# EAGLE library part LFXP10C_XXF256 (library lattice1)
lfxp10c_fpbga256 edit this description Auto generated by make-symbol-device-package-bsdl.ulp Rev. 20 Source: lfxp10c_fpbga256.bsm
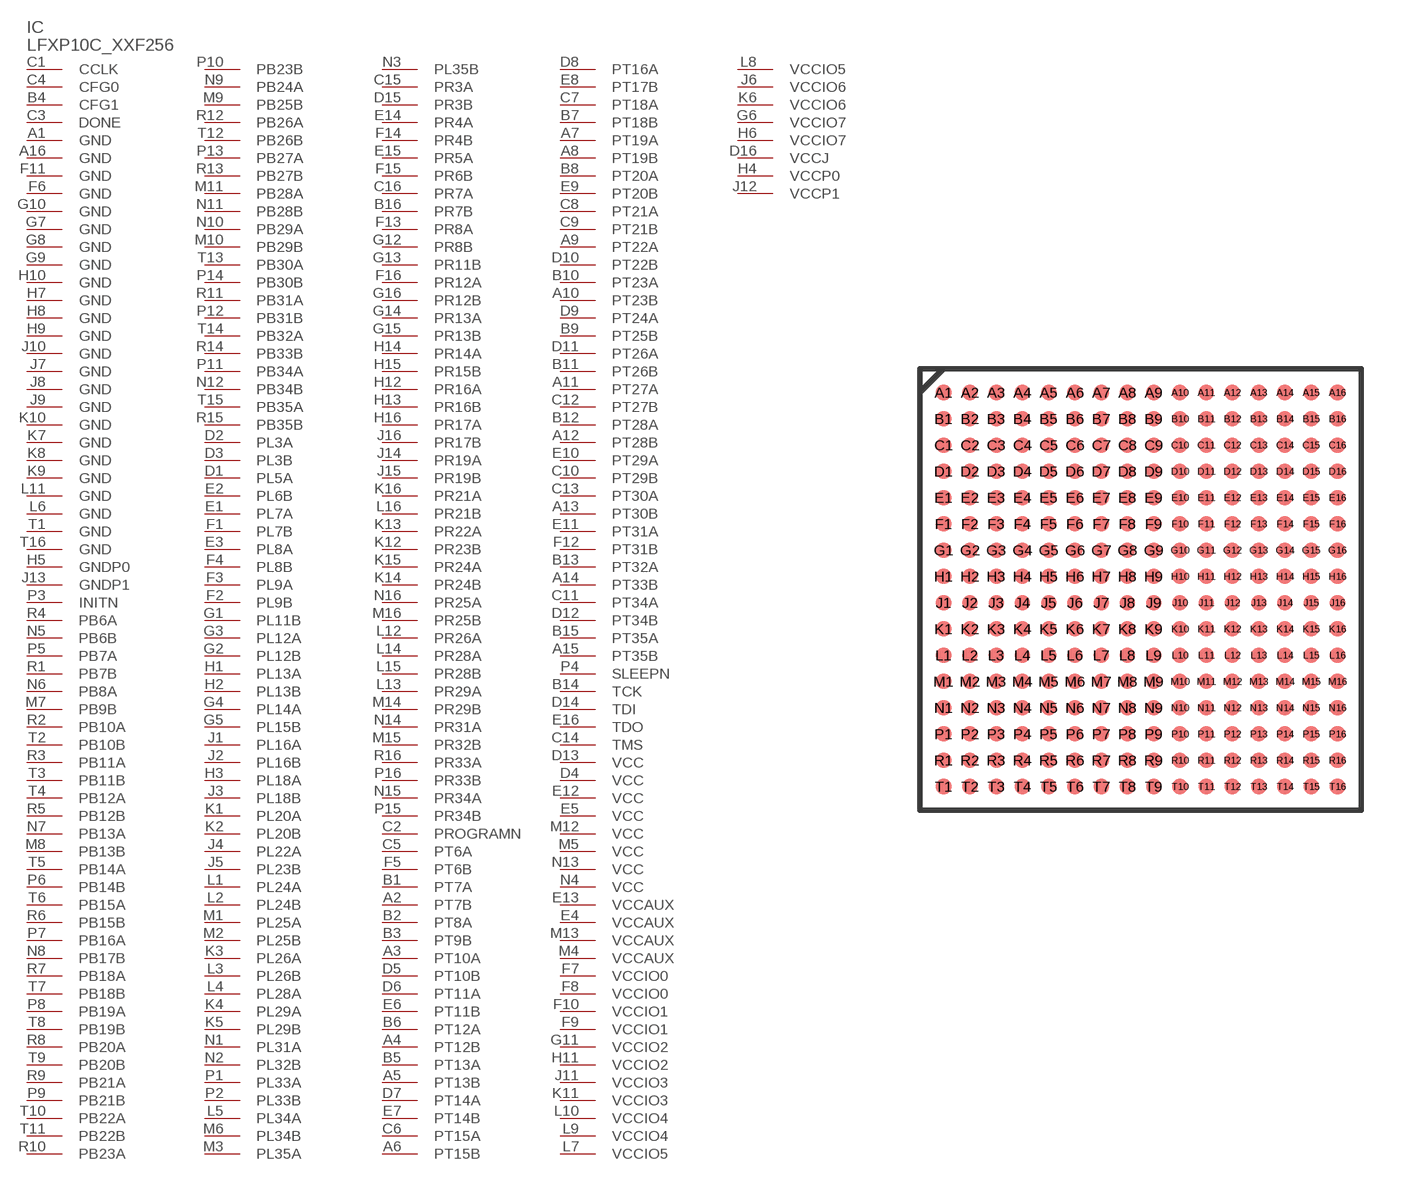
[diagram p15: symbol with the pads of FPBGA_256; footprint FPBGA_256]

Designator prefix IC

## LFXP10C_XXF256  [FPBGA_256]
A1  GND  pwr
A2  PT7B
A3  PT10A
A4  PT12B
A5  PT13B
A6  PT15B
A7  PT19A
A8  PT19B
A9  PT22A
A10  PT23B
A11  PT27A
A12  PT28B
A13  PT30B
A14  PT33B
A15  PT35B
A16  GND  pwr
B1  PT7A
B2  PT8A
B3  PT9B
B4  CFG1  in
B5  PT13A
B6  PT12A
B7  PT18B
B8  PT20A
B9  PT25B
B10  PT23A
B11  PT26B
B12  PT28A
B13  PT32A
B14  TCK  in
B15  PT35A
B16  PR7B
C1  CCLK
C2  PROGRAMN  in
C3  DONE
C4  CFG0  in
C5  PT6A
C6  PT15A
C7  PT18A
C8  PT21A
C9  PT21B
C10  PT29B
C11  PT34A
C12  PT27B
C13  PT30A
C14  TMS  in
C15  PR3A
C16  PR7A
D1  PL5A
D2  PL3A
D3  PL3B
D4  VCC  pwr
D5  PT10B
D6  PT11A
D7  PT14A
D8  PT16A
D9  PT24A
D10  PT22B
D11  PT26A
D12  PT34B
D13  VCC  pwr
D14  TDI  in
D15  PR3B
D16  VCCJ  pwr
E1  PL7A
E2  PL6B
E3  PL8A
E4  VCCAUX  pwr
E5  VCC  pwr
E6  PT11B
E7  PT14B
E8  PT17B
E9  PT20B
E10  PT29A
E11  PT31A
E12  VCC  pwr
E13  VCCAUX  pwr
E14  PR4A
E15  PR5A
E16  TDO  out
F1  PL7B
F2  PL9B
F3  PL9A
F4  PL8B
F5  PT6B
F6  GND  pwr
F7  VCCIO0  pwr
F8  VCCIO0  pwr
F9  VCCIO1  pwr
F10  VCCIO1  pwr
F11  GND  pwr
F12  PT31B
F13  PR8A
F14  PR4B
F15  PR6B
F16  PR12A
G1  PL11B
G2  PL12B
G3  PL12A
G4  PL14A
G5  PL15B
G6  VCCIO7  pwr
G7  GND  pwr
G8  GND  pwr
G9  GND  pwr
G10  GND  pwr
G11  VCCIO2  pwr
G12  PR8B
G13  PR11B
G14  PR13A
G15  PR13B
G16  PR12B
H1  PL13A
H2  PL13B
H3  PL18A
H4  VCCP0  pwr
H5  GNDP0  pwr
H6  VCCIO7  pwr
H7  GND  pwr
H8  GND  pwr
H9  GND  pwr
H10  GND  pwr
H11  VCCIO2  pwr
H12  PR16A
H13  PR16B
H14  PR14A
H15  PR15B
H16  PR17A
J1  PL16A
J2  PL16B
J3  PL18B
J4  PL22A
J5  PL23B
J6  VCCIO6  pwr
J7  GND  pwr
J8  GND  pwr
J9  GND  pwr
J10  GND  pwr
J11  VCCIO3  pwr
J12  VCCP1  pwr
J13  GNDP1  pwr
J14  PR19A
J15  PR19B
J16  PR17B
K1  PL20A
K2  PL20B
K3  PL26A
K4  PL29A
K5  PL29B
K6  VCCIO6  pwr
K7  GND  pwr
K8  GND  pwr
K9  GND  pwr
K10  GND  pwr
K11  VCCIO3  pwr
K12  PR23B
K13  PR22A
K14  PR24B
K15  PR24A
K16  PR21A
L1  PL24A
L2  PL24B
L3  PL26B
L4  PL28A
L5  PL34A
L6  GND  pwr
L7  VCCIO5  pwr
L8  VCCIO5  pwr
L9  VCCIO4  pwr
L10  VCCIO4  pwr
L11  GND  pwr
L12  PR26A
L13  PR29A
L14  PR28A
L15  PR28B
L16  PR21B
M1  PL25A
M2  PL25B
M3  PL35A
M4  VCCAUX  pwr
M5  VCC  pwr
M6  PL34B
M7  PB9B
M8  PB13B
M9  PB25B
M10  PB29B
M11  PB28A
M12  VCC  pwr
M13  VCCAUX  pwr
M14  PR29B
M15  PR32B
M16  PR25B
N1  PL31A
N2  PL32B
N3  PL35B
N4  VCC  pwr
N5  PB6B
N6  PB8A
N7  PB13A
N8  PB17B
N9  PB24A
N10  PB29A
N11  PB28B
N12  PB34B
N13  VCC  pwr
N14  PR31A
N15  PR34A
N16  PR25A
P1  PL33A
P2  PL33B
P3  INITN
P4  SLEEPN  in
P5  PB7A
P6  PB14B
P7  PB16A
P8  PB19A
P9  PB21B
P10  PB23B
P11  PB34A
P12  PB31B
P13  PB27A
P14  PB30B
P15  PR34B
P16  PR33B
R1  PB7B
R2  PB10A
R3  PB11A
R4  PB6A
R5  PB12B
R6  PB15B
R7  PB18A
R8  PB20A
R9  PB21A
R10  PB23A
R11  PB31A
R12  PB26A
R13  PB27B
R14  PB33B
R15  PB35B
R16  PR33A
T1  GND  pwr
T2  PB10B
T3  PB11B
T4  PB12A
T5  PB14A
T6  PB15A
T7  PB18B
T8  PB19B
T9  PB20B
T10  PB22A
T11  PB22B
T12  PB26B
T13  PB30A
T14  PB32A
T15  PB35A
T16  GND  pwr

## Footprint FPBGA_256 (pad centres in mm)
FPBGA 256 Auto generated by make-symbol-device-package-bsdl.ulp Rev. 19 Source: lfxp6c_fpbga256.bsm; http://www.latticesemi.com/lit/docs/package/pkg.pdf
smd 0.6 x 0.6: A1 -7.5,7.5; A2 -6.5,7.5; A3 -5.5,7.5; A4 -4.5,7.5; A5 -3.5,7.5; A6 -2.5,7.5; A7 -1.5,7.5; A8 -0.5,7.5; A9 0.5,7.5; A10 1.5,7.5; A11 2.5,7.5; A12 3.5,7.5; A13 4.5,7.5; A14 5.5,7.5; A15 6.5,7.5; A16 7.5,7.5; B1 -7.5,6.5; B2 -6.5,6.5; B3 -5.5,6.5; B4 -4.5,6.5; B5 -3.5,6.5; B6 -2.5,6.5; B7 -1.5,6.5; B8 -0.5,6.5; B9 0.5,6.5; B10 1.5,6.5; B11 2.5,6.5; B12 3.5,6.5; B13 4.5,6.5; B14 5.5,6.5; B15 6.5,6.5; B16 7.5,6.5; C1 -7.5,5.5; C2 -6.5,5.5; C3 -5.5,5.5; C4 -4.5,5.5; C5 -3.5,5.5; C6 -2.5,5.5; C7 -1.5,5.5; C8 -0.5,5.5; C9 0.5,5.5; C10 1.5,5.5; C11 2.5,5.5; C12 3.5,5.5; C13 4.5,5.5; C14 5.5,5.5; C15 6.5,5.5; C16 7.5,5.5; D1 -7.5,4.5; D2 -6.5,4.5; D3 -5.5,4.5; D4 -4.5,4.5; D5 -3.5,4.5; D6 -2.5,4.5; D7 -1.5,4.5; D8 -0.5,4.5; D9 0.5,4.5; D10 1.5,4.5; D11 2.5,4.5; D12 3.5,4.5; D13 4.5,4.5; D14 5.5,4.5; D15 6.5,4.5; D16 7.5,4.5; E1 -7.5,3.5; E2 -6.5,3.5; E3 -5.5,3.5; E4 -4.5,3.5; E5 -3.5,3.5; E6 -2.5,3.5; E7 -1.5,3.5; E8 -0.5,3.5; E9 0.5,3.5; E10 1.5,3.5; E11 2.5,3.5; E12 3.5,3.5; E13 4.5,3.5; E14 5.5,3.5; E15 6.5,3.5; E16 7.5,3.5; F1 -7.5,2.5; F2 -6.5,2.5; F3 -5.5,2.5; F4 -4.5,2.5; F5 -3.5,2.5; F6 -2.5,2.5; F7 -1.5,2.5; F8 -0.5,2.5; F9 0.5,2.5; F10 1.5,2.5; F11 2.5,2.5; F12 3.5,2.5; F13 4.5,2.5; F14 5.5,2.5; F15 6.5,2.5; F16 7.5,2.5; G1 -7.5,1.5; G2 -6.5,1.5; G3 -5.5,1.5; G4 -4.5,1.5; G5 -3.5,1.5; G6 -2.5,1.5; G7 -1.5,1.5; G8 -0.5,1.5; G9 0.5,1.5; G10 1.5,1.5; G11 2.5,1.5; G12 3.5,1.5; G13 4.5,1.5; G14 5.5,1.5; G15 6.5,1.5; G16 7.5,1.5; H1 -7.5,0.5; H2 -6.5,0.5; H3 -5.5,0.5; H4 -4.5,0.5; H5 -3.5,0.5; H6 -2.5,0.5; H7 -1.5,0.5; H8 -0.5,0.5; H9 0.5,0.5; H10 1.5,0.5; H11 2.5,0.5; H12 3.5,0.5; H13 4.5,0.5; H14 5.5,0.5; H15 6.5,0.5; H16 7.5,0.5; J1 -7.5,-0.5; J2 -6.5,-0.5; J3 -5.5,-0.5; J4 -4.5,-0.5; J5 -3.5,-0.5; J6 -2.5,-0.5; J7 -1.5,-0.5; J8 -0.5,-0.5; J9 0.5,-0.5; J10 1.5,-0.5; J11 2.5,-0.5; J12 3.5,-0.5; J13 4.5,-0.5; J14 5.5,-0.5; J15 6.5,-0.5; J16 7.5,-0.5; K1 -7.5,-1.5; K2 -6.5,-1.5; K3 -5.5,-1.5; K4 -4.5,-1.5; K5 -3.5,-1.5; K6 -2.5,-1.5; K7 -1.5,-1.5; K8 -0.5,-1.5; K9 0.5,-1.5; K10 1.5,-1.5; K11 2.5,-1.5; K12 3.5,-1.5; K13 4.5,-1.5; K14 5.5,-1.5; K15 6.5,-1.5; K16 7.5,-1.5; L1 -7.5,-2.5; L2 -6.5,-2.5; L3 -5.5,-2.5; L4 -4.5,-2.5; L5 -3.5,-2.5; L6 -2.5,-2.5; L7 -1.5,-2.5; L8 -0.5,-2.5; L9 0.5,-2.5; L10 1.5,-2.5; L11 2.5,-2.5; L12 3.5,-2.5; L13 4.5,-2.5; L14 5.5,-2.5; L15 6.5,-2.5; L16 7.5,-2.5; M1 -7.5,-3.5; M2 -6.5,-3.5; M3 -5.5,-3.5; M4 -4.5,-3.5; M5 -3.5,-3.5; M6 -2.5,-3.5; M7 -1.5,-3.5; M8 -0.5,-3.5; M9 0.5,-3.5; M10 1.5,-3.5; M11 2.5,-3.5; M12 3.5,-3.5; M13 4.5,-3.5; M14 5.5,-3.5; M15 6.5,-3.5; M16 7.5,-3.5; N1 -7.5,-4.5; N2 -6.5,-4.5; N3 -5.5,-4.5; N4 -4.5,-4.5; N5 -3.5,-4.5; N6 -2.5,-4.5; N7 -1.5,-4.5; N8 -0.5,-4.5; N9 0.5,-4.5; N10 1.5,-4.5; N11 2.5,-4.5; N12 3.5,-4.5; N13 4.5,-4.5; N14 5.5,-4.5; N15 6.5,-4.5; N16 7.5,-4.5; P1 -7.5,-5.5; P2 -6.5,-5.5; P3 -5.5,-5.5; P4 -4.5,-5.5; P5 -3.5,-5.5; P6 -2.5,-5.5; P7 -1.5,-5.5; P8 -0.5,-5.5; P9 0.5,-5.5; P10 1.5,-5.5; P11 2.5,-5.5; P12 3.5,-5.5; P13 4.5,-5.5; P14 5.5,-5.5; P15 6.5,-5.5; P16 7.5,-5.5; R1 -7.5,-6.5; R2 -6.5,-6.5; R3 -5.5,-6.5; R4 -4.5,-6.5; R5 -3.5,-6.5; R6 -2.5,-6.5; R7 -1.5,-6.5; R8 -0.5,-6.5; R9 0.5,-6.5; R10 1.5,-6.5; R11 2.5,-6.5; R12 3.5,-6.5; R13 4.5,-6.5; R14 5.5,-6.5; R15 6.5,-6.5; R16 7.5,-6.5; T1 -7.5,-7.5; T2 -6.5,-7.5; T3 -5.5,-7.5; T4 -4.5,-7.5; T5 -3.5,-7.5; T6 -2.5,-7.5; T7 -1.5,-7.5; T8 -0.5,-7.5; T9 0.5,-7.5; T10 1.5,-7.5; T11 2.5,-7.5; T12 3.5,-7.5; T13 4.5,-7.5; T14 5.5,-7.5; T15 6.5,-7.5; T16 7.5,-7.5